# Altium footprint library SMD-IC  0607.PcbLib: 125 footprints (part 8 of 8)
Each footprint in its own frame and in the unit in brackets; x right, y up, seen from the top. Pads: shape width x height; smd on the part's side, far side on the other; paste and mask are expansions set on the pad; w line width, h text height; cw(c..) or ccw(c..) is an arc to the next point about the centre after c.
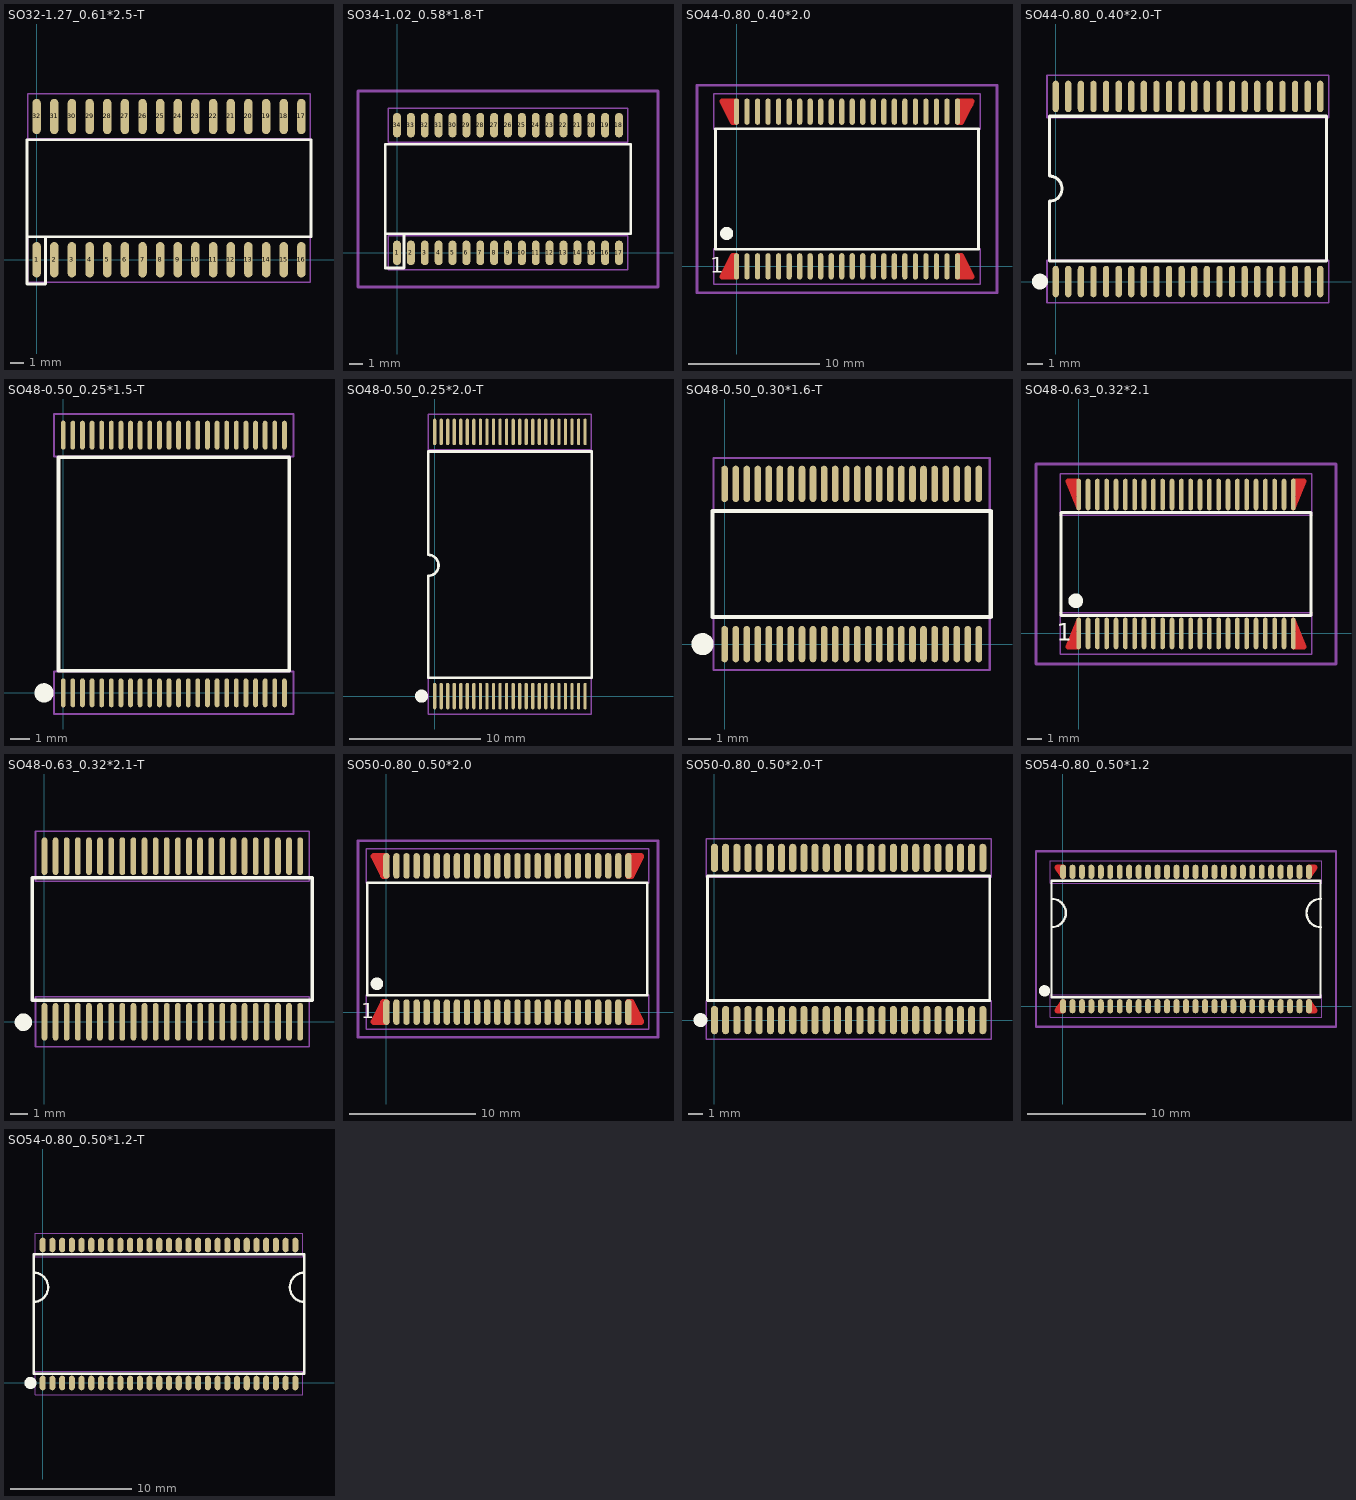
[diagram p7: the footprints below, top view; thin cyan lines are the x and y axes]

## SO32-1.27_0.61*2.5-T [mil]
pads (32):
  oval 24x100 smd: 1(0,0) 2(50,0) 3(100,0) 4(150,0) 5(200,0) 6(250,0) 7(300,0) 8(350,0) 9(400,0) 10(450,0) 11(500,0) 12(550,0) 13(600,0) 14(650,0) 15(700,0) 16(750,0) 17(750,406) 18(700,406) 19(650,406) 20(600,406) 21(550,406) 22(500,406) 23(450,406) 24(400,406) 25(350,406) 26(300,406) 27(250,406) 28(200,406) 29(150,406) 30(100,406) 31(50,406) 32(0,406)
Top Overlay:
  lines w7.87: -27.56,65 777.56,65 777.56,340 -27.56,340 -27.56,-68.9 25,-68.9 25,65
Mechanical 15:
  lines w3.94: -25.78,-63.78 775.78,-63.78 775.78,63.78 -25.78,63.78 -25.78,-63.78 ; -25.78,342.22 -25.78,469.78 775.78,469.78 775.78,342.22 -25.78,342.22

## SO34-1.02_0.58*1.8-T [mm] "300mil Width"
height 2.64
pads (34):
  oval 0.58x1.82 smd: 1(0,0) 2(1.02,0) 3(2.04,0) 4(3.06,0) 5(4.08,0) 6(5.1,0) 7(6.12,0) 8(7.14,0) 9(8.16,0) 10(9.18,0) 11(10.2,0) 12(11.22,0) 13(12.24,0) 14(13.26,0) 15(14.28,0) 16(15.3,0) 17(16.32,0) 18(16.32,9.39) 19(15.3,9.39) 20(14.28,9.39) 21(13.26,9.39) 22(12.24,9.39) 23(11.22,9.39) 24(10.2,9.39) 25(9.18,9.39) 26(8.16,9.39) 27(7.14,9.39) 28(6.12,9.39) 29(5.1,9.39) 30(4.08,9.39) 31(3.06,9.39) 32(2.04,9.39) 33(1.02,9.39) 34(0,9.39)
Top Overlay:
  lines w0.2: -0.87,1.41 17.19,1.41 17.19,7.98 -0.87,7.98 -0.87,-1.11 0.51,-1.11 0.51,1.41
Mechanical 7:
  lines w0.2: -2.87,-2.51 -2.87,11.9 19.19,11.9 19.19,-2.51 -2.87,-2.51
Mechanical 15:
  lines w0.1: -0.64,-1.26 16.96,-1.26 16.96,1.26 -0.64,1.26 -0.64,-1.26 ; -0.64,8.13 -0.64,10.65 16.96,10.65 16.96,8.13 -0.64,8.13

## SO44-0.80_0.40*2.0 [mm]
pads (44):
  oval 0.4x2 smd: 1(0,0) 2(0.8,0) 3(1.6,0) 4(2.4,0) 5(3.2,0) 6(4,0) 7(4.8,0) 8(5.6,0) 9(6.4,0) 10(7.2,0) 11(8,0) 12(8.8,0) 13(9.6,0) 14(10.4,0) 15(11.2,0) 16(12,0) 17(12.8,0) 18(13.6,0) 19(14.4,0) 20(15.2,0) 21(16,0) 22(16.8,0) 23(16.8,11.76) 24(16,11.76) 25(15.2,11.76) 26(14.4,11.76) 27(13.6,11.76) 28(12.8,11.76) 29(12,11.76) 30(11.2,11.76) 31(10.4,11.76) 32(9.6,11.76) 33(8.8,11.76) 34(8,11.76) 35(7.2,11.76) 36(6.4,11.76) 37(5.6,11.76) 38(4.8,11.76) 39(4,11.76) 40(3.2,11.76) 41(2.4,11.76) 42(1.6,11.76) 43(0.8,11.76) 44(0,11.76)
Top Layer:
  lines w0.4: 0,-0.8 -1.1,-0.8 -0.3,0.8 0,0.8 ; 0,10.96 -0.3,10.96 -1.1,12.56 0,12.56 ; 16.8,-0.8 17.9,-0.8 17.1,0.8 16.8,0.8 ; 16.8,10.96 17.1,10.96 17.9,12.56 16.8,12.56 ; 16.8,11.21 17.125,11.21 17.825,12.31 16.8,12.31 ; 16.825,11.46 17.35,12.285
  lines w0.6: -0.7,-0.5 -0.2,0.5 ; -0.7,12.26 -0.2,11.26 ; -0.3,-0.5 -0.3,-0.2 ; -0.3,11.96 -0.3,12.26 ; 17,0.5 17.5,-0.5 ; 17,11.26 17.5,12.26 ; 17.1,-0.5 17.1,-0.2 ; 17.1,11.96 17.1,12.26
Top Overlay:
  circle w0.5: c-0.75,2.5 r0.25
  lines w0.2: -1.6,1.3 18.4,1.3 18.4,10.46 -1.6,10.46 -1.6,1.3
  text "1" at -2,-0.5 h1.2
Top Solder:
  lines w0.4: 0,-0.8 -1.1,-0.8 -0.3,0.8 0,0.8 ; 0,10.96 -0.3,10.96 -1.1,12.56 0,12.56 ; 16.8,-0.8 17.9,-0.8 17.1,0.8 16.8,0.8 ; 16.8,10.96 17.1,10.96 17.9,12.56 16.8,12.56
  lines w0.8: -0.4,-0.5 -0.4,0.16 ; -0.4,11.6 -0.4,12.3 ; 17.2,-0.5 17.2,0 ; 17.2,11.6 17.2,12.3
Mechanical 8:
  lines w0.2: -3.005,-2.02 -3.005,13.78 19.805,13.78 19.805,-2.02 -3.005,-2.02
Mechanical 16:
  lines w0.1: -1.75,-1.35 -1.75,1.35 18.55,1.35 18.55,-1.35 -1.75,-1.35 ; -1.75,10.41 18.55,10.41 18.55,13.11 -1.75,13.11 -1.75,10.41

## SO44-0.80_0.40*2.0-T [mm]
pads (44):
  oval 0.4x2 smd: 1(0,0) 2(0.8,0) 3(1.6,0) 4(2.4,0) 5(3.2,0) 6(4,0) 7(4.8,0) 8(5.6,0) 9(6.4,0) 10(7.2,0) 11(8,0) 12(8.8,0) 13(9.6,0) 14(10.4,0) 15(11.2,0) 16(12,0) 17(12.8,0) 18(13.6,0) 19(14.4,0) 20(15.2,0) 21(16,0) 22(16.8,0) 23(16.8,11.76) 24(16,11.76) 25(15.2,11.76) 26(14.4,11.76) 27(13.6,11.76) 28(12.8,11.76) 29(12,11.76) 30(11.2,11.76) 31(10.4,11.76) 32(9.6,11.76) 33(8.8,11.76) 34(8,11.76) 35(7.2,11.76) 36(6.4,11.76) 37(5.6,11.76) 38(4.8,11.76) 39(4,11.76) 40(3.2,11.76) 41(2.4,11.76) 42(1.6,11.76) 43(0.8,11.76) 44(0,11.76)
Top Overlay:
  circle w0.5: c-1,0 r0.25
  lines w0.2: -0.4,1.3 17.2,1.3 17.2,10.5 -0.4,10.5 -0.4,6.7 cw(c-0.4,5.9) -0.4,5.1 -0.4,1.3
Mechanical 15:
  lines w0.1: -0.55,-1.35 -0.55,1.35 17.35,1.35 17.35,-1.35 -0.55,-1.35 ; -0.55,10.41 17.35,10.41 17.35,13.11 -0.55,13.11 -0.55,10.41

## SO48-0.50_0.25*1.5-T [mm]
pads (48):
  oval 0.25x1.5 smd: 1(0,0) 2(0.5,0) 3(1,0) 4(1.5,0) 5(2,0) 6(2.5,0) 7(3,0) 8(3.5,0) 9(4,0) 10(4.5,0) 11(5,0) 12(5.5,0) 13(6,0) 14(6.5,0) 15(7,0) 16(7.5,0) 17(8,0) 18(8.5,0) 19(9,0) 20(9.5,0) 21(10,0) 22(10.5,0) 23(11,0) 24(11.5,0) 25(11.5,13.4) 26(11,13.4) 27(10.5,13.4) 28(10,13.4) 29(9.5,13.4) 30(9,13.4) 31(8.5,13.4) 32(8,13.4) 33(7.5,13.4) 34(7,13.4) 35(6.5,13.4) 36(6,13.4) 37(5.5,13.4) 38(5,13.4) 39(4.5,13.4) 40(4,13.4) 41(3.5,13.4) 42(3,13.4) 43(2.5,13.4) 44(2,13.4) 45(1.5,13.4) 46(1,13.4) 47(0.5,13.4) 48(0,13.4)
Top Overlay:
  circle w0.5: c-1,0 r0.25
  lines w0.2: -0.25,1.15 -0.25,12.25 11.75,12.25 11.75,1.15 -0.25,1.15
Mechanical 15:
  lines w0.1: -0.475,-1.1 11.975,-1.1 11.975,1.1 -0.475,1.1 -0.475,-1.1 ; -0.475,12.3 -0.475,14.5 11.975,14.5 11.975,12.3 -0.475,12.3

## SO48-0.50_0.25*2.0-T [mm] "2610454135;261082408A"
height 1.2
pads (48):
  oval 0.25x2.032 smd: 1(0,0) 2(0.5,0) 3(1,0) 4(1.5,0) 5(2,0) 6(2.5,0) 7(3,0) 8(3.5,0) 9(4,0) 10(4.5,0) 11(5,0) 12(5.5,0) 13(6,0) 14(6.5,0) 15(7,0) 16(7.5,0) 17(8,0) 18(8.5,0) 19(9,0) 20(9.5,0) 21(10,0) 22(10.5,0) 23(11,0) 24(11.5,0) 25(11.5,20.2) 26(11,20.2) 27(10.5,20.2) 28(10,20.2) 29(9.5,20.2) 30(9,20.2) 31(8.5,20.2) 32(8,20.2) 33(7.5,20.2) 34(7,20.2) 35(6.5,20.2) 36(6,20.2) 37(5.5,20.2) 38(5,20.2) 39(4.5,20.2) 40(4,20.2) 41(3.5,20.2) 42(3,20.2) 43(2.5,20.2) 44(2,20.2) 45(1.5,20.2) 46(1,20.2) 47(0.5,20.2) 48(0,20.2)
Top Overlay:
  circle w0.5: c-1,0 r0.25
  lines w0.2: -0.5,10.8 cw(c-0.5,10) -0.5,9.2 -0.5,1.4 12,1.4 12,18.7 -0.5,18.7 -0.5,10.9
Mechanical 15:
  lines w0.1: -0.475,-1.366 11.975,-1.366 11.975,1.366 -0.475,1.366 -0.475,-1.366 ; -0.475,18.834 -0.475,21.566 11.975,21.566 11.975,18.834 -0.475,18.834

## SO48-0.50_0.30*1.6-T [mm]
height 1.2
pads (48):
  oval 0.3x1.65 smd: 1(0,0) 2(0.5,0) 3(1,0) 4(1.5,0) 5(2,0) 6(2.5,0) 7(3,0) 8(3.5,0) 9(4,0) 10(4.5,0) 11(5,0) 12(5.5,0) 13(6,0) 14(6.5,0) 15(7,0) 16(7.5,0) 17(8,0) 18(8.5,0) 19(9,0) 20(9.5,0) 21(10,0) 22(10.5,0) 23(11,0) 24(11.5,0) 25(11.5,7.25) 26(11,7.25) 27(10.5,7.25) 28(10,7.25) 29(9.5,7.25) 30(9,7.25) 31(8.5,7.25) 32(8,7.25) 33(7.5,7.25) 34(7,7.25) 35(6.5,7.25) 36(6,7.25) 37(5.5,7.25) 38(5,7.25) 39(4.5,7.25) 40(4,7.25) 41(3.5,7.25) 42(3,7.25) 43(2.5,7.25) 44(2,7.25) 45(1.5,7.25) 46(1,7.25) 47(0.5,7.25) 48(0,7.25)
Top Overlay:
  circle w0.5: c-1,0 r0.25
  lines w0.2: -0.55,1.225 12.05,1.225 12.05,6.025 -0.55,6.025 -0.55,1.225
Mechanical 15:
  lines w0.1: -0.5,-1.175 -0.5,1.175 12,1.175 12,-1.175 -0.5,-1.175 ; -0.5,6.075 12,6.075 12,8.425 -0.5,8.425 -0.5,6.075

## SO48-0.63_0.32*2.1 [mm]
height 2.8
pads (48):
  oval 0.325x2.15 smd: 1(0,0) 2(0.635,0) 3(1.269,0) 4(1.904,0) 5(2.538,0) 6(3.173,0) 7(3.808,0) 8(4.442,0) 9(5.077,0) 10(5.711,0) 11(6.346,0) 12(6.981,0) 13(7.615,0) 14(8.25,0) 15(8.885,0) 16(9.519,0) 17(10.154,0) 18(10.788,0) 19(11.423,0) 20(12.057,0) 21(12.692,0) 22(13.327,0) 23(13.961,0) 24(14.595,0) 25(14.595,9.45) 26(13.96,9.45) 27(13.325,9.45) 28(12.691,9.45) 29(12.056,9.45) 30(11.422,9.45) 31(10.787,9.45) 32(10.152,9.45) 33(9.518,9.45) 34(8.883,9.45) 35(8.249,9.45) 36(7.614,9.45) 37(6.979,9.45) 38(6.345,9.45) 39(5.71,9.45) 40(5.076,9.45) 41(4.441,9.45) 42(3.807,9.45) 43(3.172,9.45) 44(2.538,9.45) 45(1.903,9.45) 46(1.268,9.45) 47(0.635,9.45) 48(-0.001,9.45)
Top Layer:
  lines w0.325: 0,-0.91 -0.75,-0.91 0,0.91 ; -0.001,8.54 -0.751,10.36 -0.001,10.36 ; 14.595,-0.91 15.345,-0.91 14.595,0.91 ; 14.595,8.54 15.345,10.36 14.595,10.36
  lines w0.5: -0.325,-0.75 -0.3,-0.075 ; -0.326,10.2 -0.301,9.525 ; 14.895,-0.075 14.92,-0.75 ; 14.895,9.525 14.92,10.2
Top Overlay:
  circle w0.5: c-0.202,2.225 r0.25
  lines w0.2: -1.203,1.225 15.797,1.225 15.797,8.225 -1.203,8.225 -1.203,1.225
  text "1" at -1.5,-0.5 h1.2
Bottom Paste:
  lines w0.325: -0.75,-0.91 0,-0.91
Top Solder:
  lines w0.325: 0,-0.91 -0.75,-0.91 0,0.91 ; -0.001,8.54 -0.751,10.36 -0.001,10.36 ; 14.595,-0.91 15.345,-0.91 14.595,0.91 ; 14.595,8.54 15.345,10.36 14.595,10.36
  lines w0.5: -0.325,-0.75 -0.3,-0.075 ; -0.326,10.2 -0.301,9.525 ; 14.895,-0.075 14.92,-0.75 ; 14.895,9.525 14.92,10.2
Mechanical 8:
  lines w0.2: -2.903,-2.075 17.497,-2.075 17.497,11.525 -2.903,11.525 -2.903,-2.075
Mechanical 16:
  lines w0.1: -1.262,-1.425 -1.262,1.425 15.857,1.425 15.857,-1.425 -1.262,-1.425 ; -1.263,8.025 15.857,8.025 15.857,10.875 -1.263,10.875 -1.263,8.025

## SO48-0.63_0.32*2.1-T [mm]
height 2.8
pads (48):
  oval 0.325x2.15 smd: 1(0,0) 2(0.635,0) 3(1.269,0) 4(1.904,0) 5(2.538,0) 6(3.173,0) 7(3.808,0) 8(4.442,0) 9(5.077,0) 10(5.711,0) 11(6.346,0) 12(6.981,0) 13(7.615,0) 14(8.25,0) 15(8.885,0) 16(9.519,0) 17(10.154,0) 18(10.788,0) 19(11.423,0) 20(12.057,0) 21(12.692,0) 22(13.327,0) 23(13.961,0) 24(14.595,0) 25(14.595,9.45) 26(13.96,9.45) 27(13.325,9.45) 28(12.691,9.45) 29(12.056,9.45) 30(11.422,9.45) 31(10.787,9.45) 32(10.152,9.45) 33(9.518,9.45) 34(8.883,9.45) 35(8.249,9.45) 36(7.614,9.45) 37(6.979,9.45) 38(6.345,9.45) 39(5.71,9.45) 40(5.076,9.45) 41(4.441,9.45) 42(3.807,9.45) 43(3.172,9.45) 44(2.538,9.45) 45(1.903,9.45) 46(1.268,9.45) 47(0.635,9.45) 48(-0.001,9.45)
Top Overlay:
  circle w0.5: c-1.203,-0.025 r0.25
  lines w0.2: -0.703,1.225 15.297,1.225 15.297,8.225 -0.703,8.225 -0.703,1.225
Mechanical 15:
  lines w0.1: -0.513,-1.425 -0.513,1.425 15.108,1.425 15.108,-1.425 -0.513,-1.425 ; -0.513,8.025 15.107,8.025 15.107,10.875 -0.513,10.875 -0.513,8.025

## SO50-0.80_0.50*2.0 [mil] "2610444214"
height 47.24
pads (50):
  oval 20x80 smd: 1(0,0) 2(31.5,0) 3(62.99,0) 4(94.49,0) 5(125.98,0) 6(157.48,0) 7(188.98,0) 8(220.47,0) 9(251.97,0) 10(283.46,0) 11(314.96,0) 12(346.46,0) 13(377.95,0) 14(409.45,0) 15(440.94,0) 16(472.44,0) 17(503.94,0) 18(535.43,0) 19(566.93,0) 20(598.42,0) 21(629.92,0) 22(661.42,0) 23(692.91,0) 24(724.41,0) 25(755.9,0) 26(755.9,456.69) 27(724.41,456.69) 28(692.91,456.69) 29(661.42,456.69) 30(629.92,456.69) 31(598.42,456.69) 32(566.93,456.69) 33(535.43,456.69) 34(503.94,456.69) 35(472.44,456.69) 36(440.94,456.69) 37(409.45,456.69) 38(377.95,456.69) 39(346.46,456.69) 40(314.96,456.69) 41(283.46,456.69) 42(251.97,456.69) 43(220.47,456.69) 44(188.98,456.69) 45(157.48,456.69) 46(125.98,456.69) 47(94.49,456.69) 48(62.99,456.69) 49(31.5,456.69) 50(0,456.69)
Top Layer:
  lines w19.68: -16.73,-30.51 -16.73,6.89 ; -16.73,449.8 -16.73,487.2 ; 0,-30.51 -39.37,-30.51 -9.84,30.51 0,30.51 ; 0,426.18 -9.84,426.18 -39.37,487.2 0,487.2 ; 755.9,-30.51 795.27,-30.51 765.75,30.51 755.9,30.51 ; 755.9,426.18 765.75,426.18 795.27,487.2 755.9,487.2 ; 772.64,-30.51 772.64,6.89 ; 772.64,449.8 772.64,487.2
Top Overlay:
  circle w19.68: c-29.53,88.58 r9.84
  lines w7.87: -59.55,53.35 815.45,53.35 815.45,403.35 -59.55,403.35 -59.55,53.35
  text "1" at -78.74,-19.68 h47.24
Top Solder:
  lines w19.68: -16.73,-30.51 -16.73,6.89 ; -16.73,449.8 -16.73,487.2 ; 0,-30.51 -39.37,-30.51 -9.84,30.51 0,30.51 ; 0,426.18 -9.84,426.18 -39.37,487.2 0,487.2 ; 755.9,-30.51 795.27,-30.51 765.75,30.51 755.9,30.51 ; 755.9,426.18 765.75,426.18 795.27,487.2 755.9,487.2 ; 772.64,-30.51 772.64,6.89 ; 772.64,449.8 772.64,487.2
Mechanical 8:
  lines w7.87: -88.58,-78.74 -88.58,535.43 848.42,535.43 848.42,-78.74 -88.58,-78.74
Mechanical 16:
  lines w3.94: -62.99,-53.78 -62.99,53.78 818.9,53.78 818.9,-53.78 -62.99,-53.78 ; -62.99,402.91 -62.99,510.47 818.9,510.47 818.9,402.91 -62.99,402.91

## SO50-0.80_0.50*2.0-T [mil] "2610444214"
height 47.24
pads (50):
  oval 20x80 smd: 1(0,0) 2(31.5,0) 3(62.99,0) 4(94.49,0) 5(125.98,0) 6(157.48,0) 7(188.98,0) 8(220.47,0) 9(251.97,0) 10(283.46,0) 11(314.96,0) 12(346.46,0) 13(377.95,0) 14(409.45,0) 15(440.94,0) 16(472.44,0) 17(503.94,0) 18(535.43,0) 19(566.93,0) 20(598.42,0) 21(629.92,0) 22(661.42,0) 23(692.91,0) 24(724.41,0) 25(755.9,0) 26(755.9,456.69) 27(724.41,456.69) 28(692.91,456.69) 29(661.42,456.69) 30(629.92,456.69) 31(598.42,456.69) 32(566.93,456.69) 33(535.43,456.69) 34(503.94,456.69) 35(472.44,456.69) 36(440.94,456.69) 37(409.45,456.69) 38(377.95,456.69) 39(346.46,456.69) 40(314.96,456.69) 41(283.46,456.69) 42(251.97,456.69) 43(220.47,456.69) 44(188.98,456.69) 45(157.48,456.69) 46(125.98,456.69) 47(94.49,456.69) 48(62.99,456.69) 49(31.5,456.69) 50(0,456.69)
Top Overlay:
  circle w19.68: c-39.37,0 r9.84
  lines w7.87: -19.68,55.12 775.59,55.12 775.59,405.51 -19.68,405.51 -19.68,55.12
Mechanical 15:
  lines w3.94: -23.78,-53.78 -23.78,53.78 779.68,53.78 779.68,-53.78 -23.78,-53.78 ; -23.78,402.91 779.68,402.91 779.68,510.47 -23.78,510.47 -23.78,402.91

## SO54-0.80_0.50*1.2 [mm]
pads (54):
  oval 0.5x1.2 smd: 1(0,0) 2(0.8,0) 3(1.6,0) 4(2.4,0) 5(3.2,0) 6(4,0) 7(4.8,0) 8(5.6,0) 9(6.4,0) 10(7.2,0) 11(8,0) 12(8.8,0) 13(9.6,0) 14(10.4,0) 15(11.2,0) 16(12,0) 17(12.8,0) 18(13.6,0) 19(14.4,0) 20(15.2,0) 21(16,0) 22(16.8,0) 23(17.6,0) 24(18.4,0) 25(19.2,0) 26(20,0) 27(20.8,0) 28(20.8,11.36) 29(20,11.36) 30(19.2,11.36) 31(18.4,11.36) 32(17.6,11.36) 33(16.8,11.36) 34(16,11.36) 35(15.2,11.36) 36(14.4,11.36) 37(13.6,11.36) 38(12.8,11.36) 39(12,11.36) 40(11.2,11.36) 41(10.4,11.36) 42(9.6,11.36) 43(8.8,11.36) 44(8,11.36) 45(7.2,11.36) 46(6.4,11.36) 47(5.6,11.36) 48(4.8,11.36) 49(4,11.36) 50(3.2,11.36) 51(2.4,11.36) 52(1.6,11.36) 53(0.8,11.36) 54(0,11.36)
Top Layer:
  lines w0.5: 0,-0.35 -0.475,-0.35 0,0.35 ; 0,11.01 -0.475,11.71 0,11.71 ; 20.8,-0.35 21.275,-0.35 20.8,0.35 ; 20.8,11.01 21.275,11.71 20.8,11.71
Top Overlay:
  circle w0.5: c-1.55,1.3 r0.225
  lines w0.2: -0.955,6.68 ccw(c-0.955,7.88) -0.955,9.08 ; 21.78,6.68 cw(c21.78,7.88) 21.78,9.08 ; -0.967,0.75 21.768,0.75 21.768,10.61 -0.967,10.61 -0.967,0.75
Mechanical 8:
  lines w0.2: -2.275,-1.72 23.075,-1.72 23.075,13.08 -2.275,13.08 -2.275,-1.72
Mechanical 16:
  lines w0.1: -1.075,-0.95 -1.075,0.95 21.875,0.95 21.875,-0.95 -1.075,-0.95 ; -1.075,10.41 -1.075,12.31 21.875,12.31 21.875,10.41 -1.075,10.41

## SO54-0.80_0.50*1.2-T [mm]
pads (54):
  oval 0.5x1.2 smd: 1(0,0) 2(0.8,0) 3(1.6,0) 4(2.4,0) 5(3.2,0) 6(4,0) 7(4.8,0) 8(5.6,0) 9(6.4,0) 10(7.2,0) 11(8,0) 12(8.8,0) 13(9.6,0) 14(10.4,0) 15(11.2,0) 16(12,0) 17(12.8,0) 18(13.6,0) 19(14.4,0) 20(15.2,0) 21(16,0) 22(16.8,0) 23(17.6,0) 24(18.4,0) 25(19.2,0) 26(20,0) 27(20.8,0) 28(20.8,11.36) 29(20,11.36) 30(19.2,11.36) 31(18.4,11.36) 32(17.6,11.36) 33(16.8,11.36) 34(16,11.36) 35(15.2,11.36) 36(14.4,11.36) 37(13.6,11.36) 38(12.8,11.36) 39(12,11.36) 40(11.2,11.36) 41(10.4,11.36) 42(9.6,11.36) 43(8.8,11.36) 44(8,11.36) 45(7.2,11.36) 46(6.4,11.36) 47(5.6,11.36) 48(4.8,11.36) 49(4,11.36) 50(3.2,11.36) 51(2.4,11.36) 52(1.6,11.36) 53(0.8,11.36) 54(0,11.36)
Top Overlay:
  circle w0.5: c-1,0 r0.25
  lines w0.2: -0.75,6.68 ccw(c-0.75,7.88) -0.75,9.08 ; 21.55,6.68 cw(c21.55,7.88) 21.55,9.08 ; -0.75,0.75 -0.75,10.61 21.55,10.61 21.55,0.75 -0.75,0.75
Mechanical 15:
  lines w0.1: -0.604,-0.95 21.4,-0.95 21.4,0.95 -0.604,0.95 ; -0.604,10.41 21.4,10.41 21.4,12.31 -0.604,12.31 ; -0.6,-0.95 -0.6,0.95 ; -0.6,10.41 -0.6,12.31